# Altium schematic symbol library MCP23S17.SchLib: 1 symbol
Pins are listed as number, name and electrical type; pins without a type are passive.

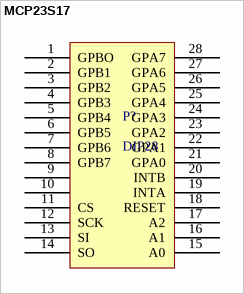
[diagram p0: symbol MCP23S17]

## MCP23S17
designator P?, comment DIP28
扩展模块
footprint MCP23S17 (扩展模块)
pins: 1 GPBO, 2 GPB1, 3 GPB2, 4 GPB3, 5 GPB4, 6 GPB5, 7 GPB6, 8 GPB7, 9, 10, 11 CS, 12 SCK, 13 SI, 14 SO, 15 A0, 16 A1, 17 A2, 18 RESET, 19 INTA, 20 INTB, 21 GPA0, 22 GPA1, 23 GPA2, 24 GPA3, 25 GPA4, 26 GPA5, 27 GPA6, 28 GPA7